# EAGLE library part ESP-01 (library EE445L)
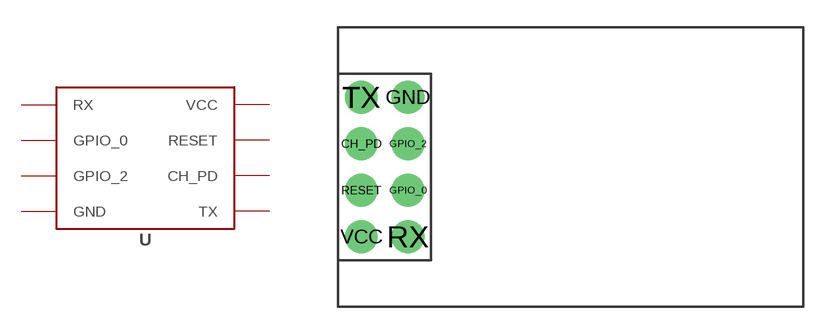
[diagram p39: symbol with the pads of ESP8266_01; footprint ESP8266_01]

Designator prefix -

## ESP-01  [ESP8266_01]
CH_PD  CH_PD
GND  GND
GPIO_0  GPIO_0
GPIO_2  GPIO_2
RESET  RESET
RX  RX
TX  TX
VCC  VCC

## Footprint ESP8266_01 (pad centres in mm)
drill 1 pad 1.778: CH_PD -1.27,1.27; GND 1.27,3.81; GPIO_0 1.27,-1.27; GPIO_2 1.27,1.27; RESET -1.27,-1.27; RX 1.27,-3.81; TX -1.27,3.81; VCC -1.27,-3.81